# Altium schematic symbol library 2450AT42A100.Schlib: 1 symbol
Pins are listed as number, name and electrical type; pins without a type are passive.

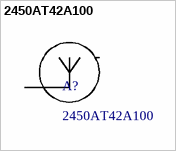
[diagram p0: symbol 2450AT42A100]

## 2450AT42A100
designator A?
pins: 1, 2